# EAGLE library part AD5248 (library RNH_AD5248)
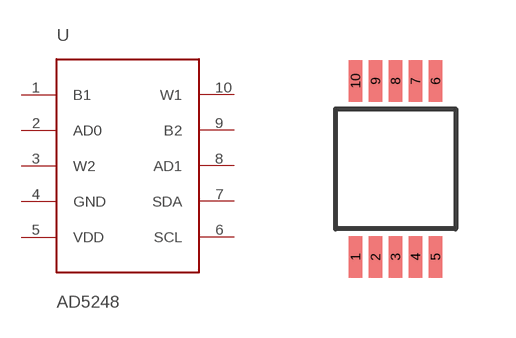
[diagram p0: symbol with the pads of RM-10; footprint RM-10]

Designator prefix -

## AD5248MSOP-10  [RM-10]
1  B1
2  AD0
3  W2
4  GND  pwr
5  VDD  pwr
6  SCL
7  SDA
8  AD1
9  B2
10  W1

## Footprint RM-10 (pad centres in mm)
smd 0.34 x 1.04: 1 -1,-2.2; 2 -0.5,-2.2; 3 0,-2.2; 4 0.5,-2.2; 5 1,-2.2; 6 1,2.2; 7 0.5,2.2; 8 0,2.2; 9 -0.5,2.2; 10 -1,2.2